# EAGLE library part IR2117 (library m_ic-power)
IR2117 Single Channel Driver The IR2117/IR2118(S) is a high voltage, high speed power MOSFET and IGBT driver. The logic input is compatible with standard CMOS outputs. The floating channel can be used to drive an N-channel power MOSFET or IGBT in the high or low side configuration which operates up to 600 volts.
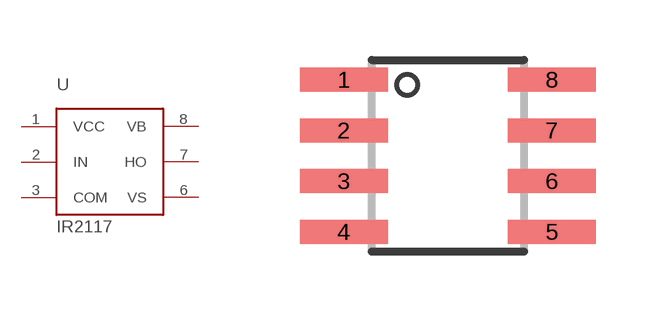
[diagram p1: symbol with the pads of SO08; footprint SO08]

Designator prefix -

## IR2117  [SO08]
1  VCC  pwr
2  IN
3  COM  pwr
6  VS
7  HO
8  VB

## Footprint SO08 (pad centres in mm)
Small Outline Package 8 NS Package M08A
smd 2.2 x 0.6: 1 -2.604,1.905; 2 -2.604,0.635; 3 -2.604,-0.635; 4 -2.604,-1.905; 5 2.604,-1.905; 6 2.604,-0.635; 7 2.604,0.635; 8 2.604,1.905